# Altium schematic symbol library SCH_Audio.SchLib: 1 symbol
Pins are listed as number, name and electrical type; pins without a type are passive.

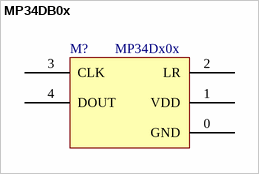
[diagram p0: symbol MP34DB0x]

## MP34DB0x
designator M?, comment MP34Dx0x
MEMS Microphone
footprint MP34DB0x
footprint MP34DT0x (ST MEMS microphone top hole 3*4mm series)
pins: 0 GND, 1 VDD, 2 LR, 3 CLK, 4 DOUT